# Altium footprint library COF.PcbLib: 17 footprints (part 2 of 2)
Each footprint in its own frame and in the unit in brackets; x right, y up, seen from the top. Pads: shape width x height; smd on the part's side, far side on the other; paste and mask are expansions set on the pad; w line width, h text height; cw(c..) or ccw(c..) is an arc to the next point about the centre after c.
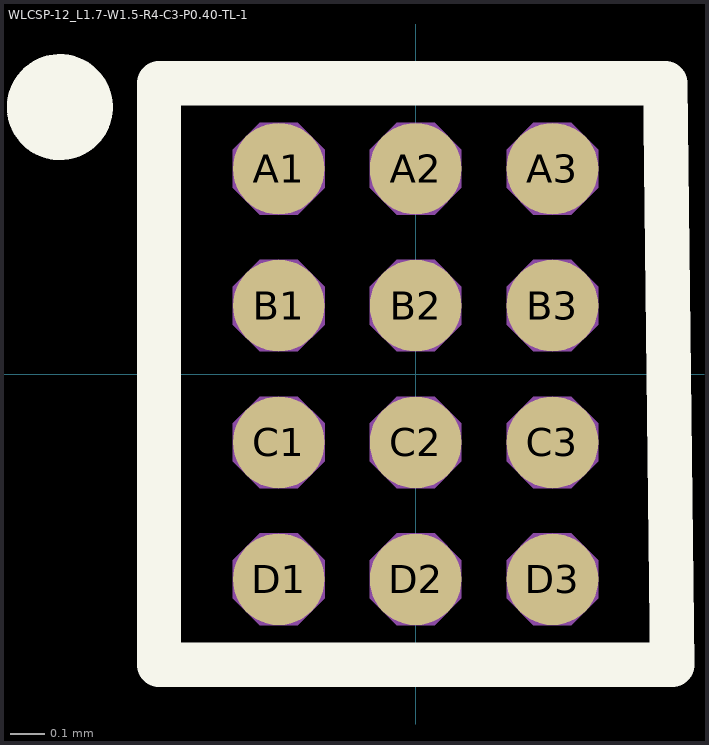
[diagram p1: the footprint, top view; thin cyan lines are the x and y axes]

## WLCSP-12_L1.7-W1.5-R4-C3-P0.40-TL-1 [mm]
pads (12):
  round 0.268 smd paste+0 mask+0.051: A1(-0.4,0.6) A2(0,0.6) A3(0.4,0.6) B1(-0.4,0.2) B2(0,0.2) B3(0.4,0.2) C1(-0.4,-0.2) C2(0,-0.2) C3(0.4,-0.2) D1(-0.4,-0.6) D2(0,-0.6) D3(0.4,-0.6)
Top Overlay:
  circle w0.17: c-1.04,0.78 r0.07
  lines w0.13: -0.75,-0.85 0.75,-0.85 0.73,0.85 -0.75,0.85 -0.75,-0.85
Top Assembly:
  lines w0.051: -0.75,-0.85 -0.75,0.85 0.75,0.85 0.75,-0.85 -0.75,-0.85
  text ".Designator" at -1.064,1.036 h0.5
Mechanical 15:
  region: -0.266,-0.6 -0.266,-0.545 -0.345,-0.466 -0.456,-0.466 -0.534,-0.545 -0.534,-0.6 -0.534,-0.656 -0.456,-0.734 -0.345,-0.734 -0.266,-0.656 -0.266,-0.6
  region: -0.266,-0.2 -0.266,-0.144 -0.345,-0.066 -0.456,-0.066 -0.534,-0.144 -0.534,-0.2 -0.534,-0.256 -0.456,-0.334 -0.345,-0.334 -0.266,-0.256 -0.266,-0.2
  region: -0.266,0.2 -0.266,0.256 -0.345,0.334 -0.456,0.334 -0.534,0.256 -0.534,0.2 -0.534,0.144 -0.456,0.066 -0.345,0.066 -0.266,0.144 -0.266,0.2
  region: -0.266,0.6 -0.266,0.656 -0.345,0.734 -0.456,0.734 -0.534,0.656 -0.534,0.6 -0.534,0.545 -0.456,0.466 -0.345,0.466 -0.266,0.545 -0.266,0.6
  region: 0.134,-0.6 0.134,-0.545 0.055,-0.466 -0.056,-0.466 -0.134,-0.545 -0.134,-0.6 -0.134,-0.656 -0.056,-0.734 0.055,-0.734 0.134,-0.656 0.134,-0.6
  region: 0.134,-0.2 0.134,-0.144 0.055,-0.066 -0.056,-0.066 -0.134,-0.144 -0.134,-0.2 -0.134,-0.256 -0.056,-0.334 0.055,-0.334 0.134,-0.256 0.134,-0.2
  region: 0.134,0.2 0.134,0.256 0.055,0.334 -0.056,0.334 -0.134,0.256 -0.134,0.2 -0.134,0.144 -0.056,0.066 0.055,0.066 0.134,0.144 0.134,0.2
  region: 0.134,0.6 0.134,0.656 0.055,0.734 -0.056,0.734 -0.134,0.656 -0.134,0.6 -0.134,0.545 -0.056,0.466 0.055,0.466 0.134,0.545 0.134,0.6
  region: 0.534,-0.6 0.534,-0.545 0.456,-0.466 0.344,-0.466 0.266,-0.545 0.266,-0.6 0.266,-0.656 0.344,-0.734 0.456,-0.734 0.534,-0.656 0.534,-0.6
  region: 0.534,-0.2 0.534,-0.144 0.456,-0.066 0.344,-0.066 0.266,-0.144 0.266,-0.2 0.266,-0.256 0.344,-0.334 0.456,-0.334 0.534,-0.256 0.534,-0.2
  region: 0.534,0.2 0.534,0.256 0.456,0.334 0.344,0.334 0.266,0.256 0.266,0.2 0.266,0.144 0.344,0.066 0.456,0.066 0.534,0.144 0.534,0.2
  region: 0.534,0.6 0.534,0.656 0.456,0.734 0.344,0.734 0.266,0.656 0.266,0.6 0.266,0.545 0.344,0.466 0.456,0.466 0.534,0.545 0.534,0.6
3D body: height 0.25, standoff 0, extent -0.666,-0.814 0.666,0.814